# Altium footprint library BC95_PCB_FOOTPRINT_PROTEL_20160525.PcbLib: 3 footprints
Each footprint in its own frame and in the unit in brackets; x right, y up, seen from the top. Pads: shape width x height; smd on the part's side, far side on the other; paste and mask are expansions set on the pad; w line width, h text height; cw(c..) or ccw(c..) is an arc to the next point about the centre after c.
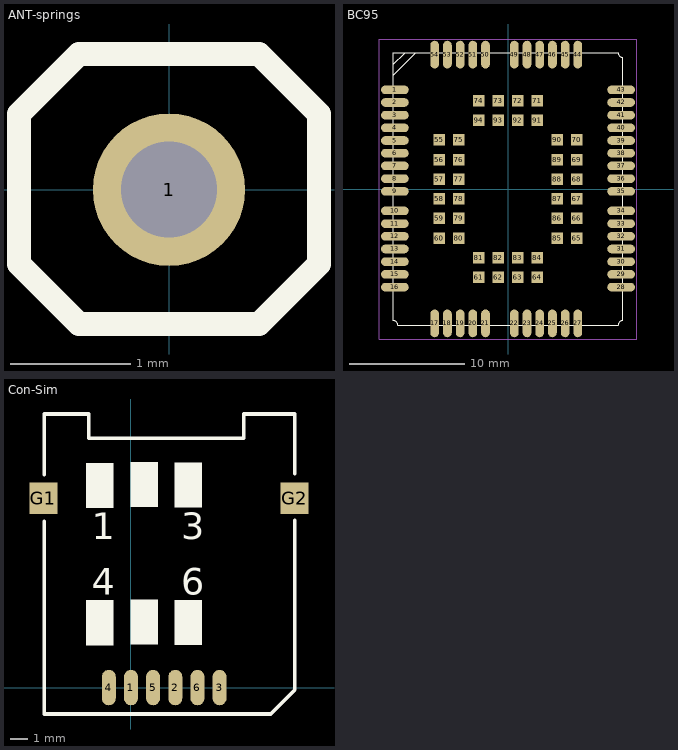
[diagram p0: the footprints below, top view; thin cyan lines are the x and y axes]

## ANT-springs [mm] "弹簧天线"
pads (1):
  round 1.27 hole 0.8: 1(0,0)
Top Overlay:
  lines w0.203: -1.25,-0.619 -1.25,0.631 -0.75,1.131 0.75,1.131 1.25,0.631 1.25,-0.619 0.75,-1.119 -0.75,-1.119 -1.25,-0.619

## BC95 [mm]
pads (94):
  oval 2.4x0.75 smd: 1(-9.8,8.6) 2(-9.8,7.5) 3(-9.8,6.4) 4(-9.8,5.3) 5(-9.8,4.2) 6(-9.8,3.1) 7(-9.8,2) 8(-9.8,0.9) 9(-9.8,-0.2) 10(-9.8,-1.9) 11(-9.8,-3) 12(-9.8,-4.1) 13(-9.8,-5.2) 14(-9.8,-6.3) 15(-9.8,-7.4) 16(-9.8,-8.5) 28(9.8,-8.5) 29(9.8,-7.4) 30(9.8,-6.3) 31(9.8,-5.2) 32(9.8,-4.1) 33(9.8,-3) 34(9.8,-1.9) 35(9.8,-0.2) 36(9.8,0.9) 37(9.8,2) 38(9.8,3.1) 39(9.8,4.2) 40(9.8,5.3) 41(9.8,6.4) 42(9.8,7.5) 43(9.8,8.6)
  oval 0.75x2.4 smd: 17(-6.35,-11.65) 18(-5.25,-11.65) 19(-4.15,-11.65) 20(-3.05,-11.65) 21(-1.95,-11.65) 22(0.55,-11.65) 23(1.65,-11.65) 24(2.75,-11.65) 25(3.85,-11.65) 26(4.95,-11.65) 27(6.05,-11.65) 44(6.05,11.65) 45(4.95,11.65) 46(3.85,11.65) 47(2.75,11.65) 48(1.65,11.65) 49(0.55,11.65) 50(-1.95,11.65) 51(-3.05,11.65) 52(-4.15,11.65) 53(-5.25,11.65) 54(-6.35,11.65)
  rect 1x1 smd: 55(-5.95,4.25) 56(-5.95,2.55) 57(-5.95,0.85) 58(-5.95,-0.85) 59(-5.95,-2.55) 60(-5.95,-4.25) 61(-2.55,-7.65) 62(-0.85,-7.65) 63(0.85,-7.65) 64(2.55,-7.65) 65(5.95,-4.25) 66(5.95,-2.55) 67(5.95,-0.85) 68(5.95,0.85) 69(5.95,2.55) 70(5.95,4.25) 71(2.55,7.65) 72(0.85,7.65) 73(-0.85,7.65) 74(-2.55,7.65) 75(-4.25,4.25) 76(-4.25,2.55) 77(-4.25,0.85) 78(-4.25,-0.85) 79(-4.25,-2.55) 80(-4.25,-4.25) 81(-2.55,-5.95) 82(-0.85,-5.95) 83(0.85,-5.95) 84(2.55,-5.95) 85(4.25,-4.25) 86(4.25,-2.55) 87(4.25,-0.85) 88(4.25,0.85) 89(4.25,2.55) 90(4.25,4.25) 91(2.55,5.95) 92(0.85,5.95) 93(-0.85,5.95) 94(-2.55,5.95)
Top Overlay:
  lines w0.1: -9.95,9.851 -8.001,11.8 -9.271,11.8 ; -9.95,10.033 -9.95,11.375 ; -9.95,10.414 -9.95,11.8 ; -9.931,10.82 -8.966,11.786 ; -8.437,11.8 -9.95,11.8 ; -9.95,11.8 9.55,11.8 ccw(c9.95,11.8) 9.95,11.4 9.95,-11.4 ccw(c9.95,-11.8) 9.55,-11.8 -9.55,-11.8 ccw(c-9.95,-11.8) -9.95,-11.4 -9.95,11.8
Mechanical 1:
  lines w0.01: -11.15,-13 -11.15,13 11.15,13 11.15,-13 -11.15,-13

## Con-Sim [mm] "SIM-TF卡 滑动式(韩国韩荣)"
height 2
pads (8):
  oval 0.8x2.032 smd: 1(0,0) 2(2.54,0) 3(5.08,0) 4(-1.27,0) 5(1.27,0) 6(3.81,0)
  rect 1.6x1.8 smd: G1(-5.02,10.85) G2(9.38,10.85)
Top Overlay:
  rectangle: -2.565,2.413 -0.991,5.004
  rectangle: -0.025,2.464 1.549,5.055
  rectangle: 2.489,2.438 4.064,5.029
  rectangle: 2.489,10.312 4.064,12.903
  rectangle: -0.025,10.338 1.549,12.929
  rectangle: -2.565,10.287 -0.991,12.878
  lines w0.203: -4.971,9.525 -4.971,-1.515 8.001,-1.515 9.38,-0.136 9.38,9.58 ; -4.971,12.192 -4.971,15.676 -2.431,15.676 -2.431,14.279 6.459,14.279 6.459,15.676 9.38,15.676 9.38,12.247
  text "4" at -2.235,5.309 h1.52
  text "3" at 2.87,8.509 h1.52
  text "1" at -2.235,8.509 h1.52
  text "6" at 2.87,5.309 h1.52